# Altium footprint library max232_dip16.PcbLib: 1 footprints
Each footprint in its own frame and in the unit in brackets; x right, y up, seen from the top. Pads: shape width x height; smd on the part's side, far side on the other; paste and mask are expansions set on the pad; w line width, h text height; cw(c..) or ccw(c..) is an arc to the next point about the centre after c.
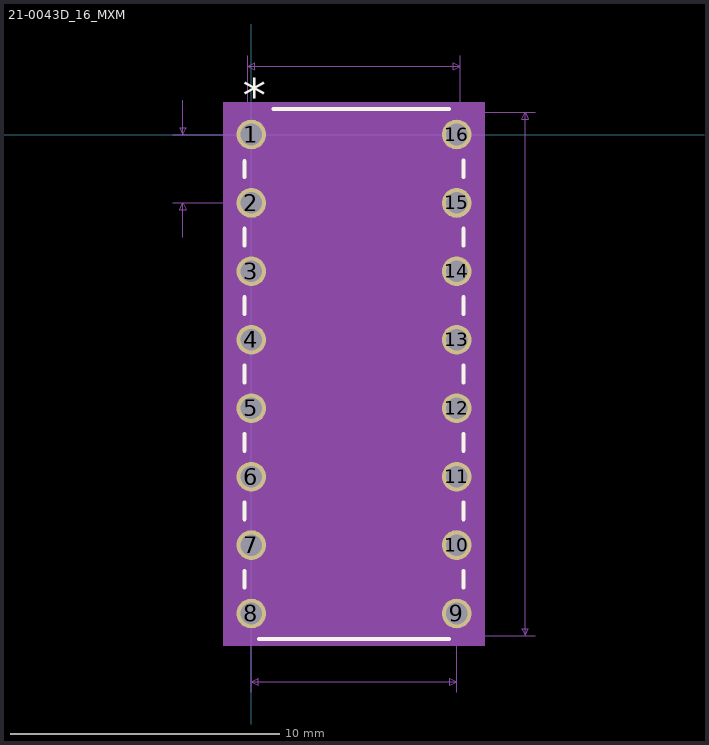
[diagram p0: the footprint, top view; thin cyan lines are the x and y axes]

## 21-0043D_16_MXM [mm]
pads (16):
  round 1.1 / inner rect 1.321x1.321 / far side round 1.1 hole 0.8 mask+0: 1(0,0)
  round 1.1 / inner round 1.321 / far side round 1.1 hole 0.8 mask+0: 2(0,-2.54) 3(0,-5.08) 4(0,-7.62) 5(0,-10.16) 6(0,-12.7) 7(0,-15.24) 8(0,-17.78) 9(7.62,-17.78) 10(7.62,-15.24) 11(7.62,-12.7) 12(7.62,-10.16) 13(7.62,-7.62) 14(7.62,-5.08) 15(7.62,-2.54) 16(7.62,0)
Top Overlay:
  lines w0.152: -0.254,-16.82 -0.254,-16.2 ; -0.254,-14.28 -0.254,-13.66 ; -0.254,-11.74 -0.254,-11.12 ; -0.254,-9.2 -0.254,-8.58 ; -0.254,-6.66 -0.254,-6.04 ; -0.254,-4.12 -0.254,-3.5 ; -0.254,-1.58 -0.254,-0.993 ; 0.281,-18.732 7.339,-18.732 ; 0.82,0.953 7.339,0.953 ; 7.874,-16.82 7.874,-16.2 ; 7.874,-14.28 7.874,-13.66 ; 7.874,-11.74 7.874,-11.12 ; 7.874,-9.2 7.874,-8.58 ; 7.874,-6.66 7.874,-6.04 ; 7.874,-4.12 7.874,-3.5 ; 7.874,-1.58 7.874,-0.96
  text "*" at -0.318,0.787 h1.27
Mechanical 5:
  region: 8.661,-18.986 -1.041,-18.986 -1.041,1.206 8.661,1.206
Mechanical 7:
  lines w0.025: -2.921,-2.54 0,-2.54 ; -2.921,0 0,0 ; -2.54,-3.81 -2.54,-2.54 ; -2.54,1.27 -2.54,0 ; -0.127,-17.78 -0.127,2.921 ; 0,-20.701 0,-17.78 ; 3.81,-18.605 10.541,-18.605 ; 3.81,0.826 10.541,0.826 ; 7.62,-20.701 7.62,-17.78 ; 7.747,-17.78 7.747,2.921 ; -2.54,-2.54 -2.413,-2.794 -2.667,-2.794 -2.54,-2.54 ; -2.54,0 -2.413,0.254 -2.667,0.254 -2.54,0 ; -0.127,2.54 0.127,2.413 0.127,2.667 -0.127,2.54 ; -0.127,2.54 7.747,2.54 ; 0,-20.32 0.254,-20.447 0.254,-20.193 0,-20.32 ; 0,-20.32 7.62,-20.32 ; 7.62,-20.32 7.366,-20.447 7.366,-20.193 7.62,-20.32 ; 7.747,2.54 7.493,2.413 7.493,2.667 7.747,2.54 ; 10.16,-18.605 10.287,-18.351 10.033,-18.351 10.16,-18.605 ; 10.16,-18.605 10.16,0.826 ; 10.16,0.826 10.287,0.572 10.033,0.572 10.16,0.826
  text "0.765in/19.431mm" at 10.668,-9.207 h0.64
  text "0.31in/7.874mm" at 1.587,3.048 h0.64
  text "0.3in/7.62mm" at 1.905,-21.463 h0.64
  text "0.1in/2.54mm" at -6.858,-1.587 h0.64
  text "Alt 2 Padstyle: b229_152h76" at -4.763,-29.87 h1.27
  text "Alt 1 Padstyle: b152_229h76" at -4.763,-28.6 h1.27
  text "Pin 1 Padstyle: s132h81" at -3.492,-27.33 h1.27
  text "Default Padstyle: c132h81" at -4.127,-24.79 h1.27
Mechanical 13:
  lines w0: 3.505,0.826 ccw(c3.81,0.826) 4.115,0.826
  lines w0.025: -0.406,-18.186 -0.127,-18.186 -0.127,-17.374 -0.406,-17.374 -0.406,-18.186 ; -0.406,-15.646 -0.127,-15.646 -0.127,-14.834 -0.406,-14.834 -0.406,-15.646 ; -0.406,-13.106 -0.127,-13.106 -0.127,-12.294 -0.406,-12.294 -0.406,-13.106 ; -0.406,-10.566 -0.127,-10.566 -0.127,-9.754 -0.406,-9.754 -0.406,-10.566 ; -0.406,-8.026 -0.127,-8.026 -0.127,-7.214 -0.406,-7.214 -0.406,-8.026 ; -0.406,-5.486 -0.127,-5.486 -0.127,-4.674 -0.406,-4.674 -0.406,-5.486 ; -0.406,-2.946 -0.127,-2.946 -0.127,-2.134 -0.406,-2.134 -0.406,-2.946 ; -0.406,-0.406 -0.127,-0.406 -0.127,0.406 -0.406,0.406 -0.406,-0.406 ; -0.127,-18.605 -0.127,0.826 7.747,0.826 7.747,-18.605 -0.127,-18.605 ; 7.747,-18.186 8.026,-18.186 8.026,-17.374 7.747,-17.374 7.747,-18.186 ; 7.747,-15.646 8.026,-15.646 8.026,-14.834 7.747,-14.834 7.747,-15.646 ; 7.747,-13.106 8.026,-13.106 8.026,-12.294 7.747,-12.294 7.747,-13.106 ; 7.747,-10.566 8.026,-10.566 8.026,-9.754 7.747,-9.754 7.747,-10.566 ; 7.747,-8.026 8.026,-8.026 8.026,-7.214 7.747,-7.214 7.747,-8.026 ; 7.747,-5.486 8.026,-5.486 8.026,-4.674 7.747,-4.674 7.747,-5.486 ; 7.747,-2.946 8.026,-2.946 8.026,-2.134 7.747,-2.134 7.747,-2.946 ; 7.747,-0.406 8.026,-0.406 8.026,0.406 7.747,0.406 7.747,-0.406
  text "*" at -0.191,-0.635 h1.27
Mechanical 15:
  region: 8.001,-18.694 8.534,-18.694 8.534,0.914 8.001,0.914 8.001,1.079 -0.381,1.079 -0.381,0.914 -0.914,0.914 -0.914,-18.694 -0.381,-18.694 -0.381,-18.86 8.001,-18.86
  lines w0.152: -0.914,-18.694 -0.381,-18.694 -0.381,-18.86 8.001,-18.86 8.001,-18.694 8.534,-18.694 8.534,0.914 8.001,0.914 8.001,1.079 -0.381,1.079 -0.381,0.914 -0.914,0.914 -0.914,-18.694
3D body: height 0.25, standoff 0, extent 0,0 0.254,0.254
3D body "max232_dip16.step": height 4.7, standoff -2.54, extent -0.127,-18.606 7.864,0.826